# Altium footprint library STM32 Core board.PcbLib: 42 footprints (part 2 of 3)
Each footprint in its own frame and in the unit in brackets; x right, y up, seen from the top. Pads: shape width x height; smd on the part's side, far side on the other; paste and mask are expansions set on the pad; w line width, h text height; cw(c..) or ccw(c..) is an arc to the next point about the centre after c.
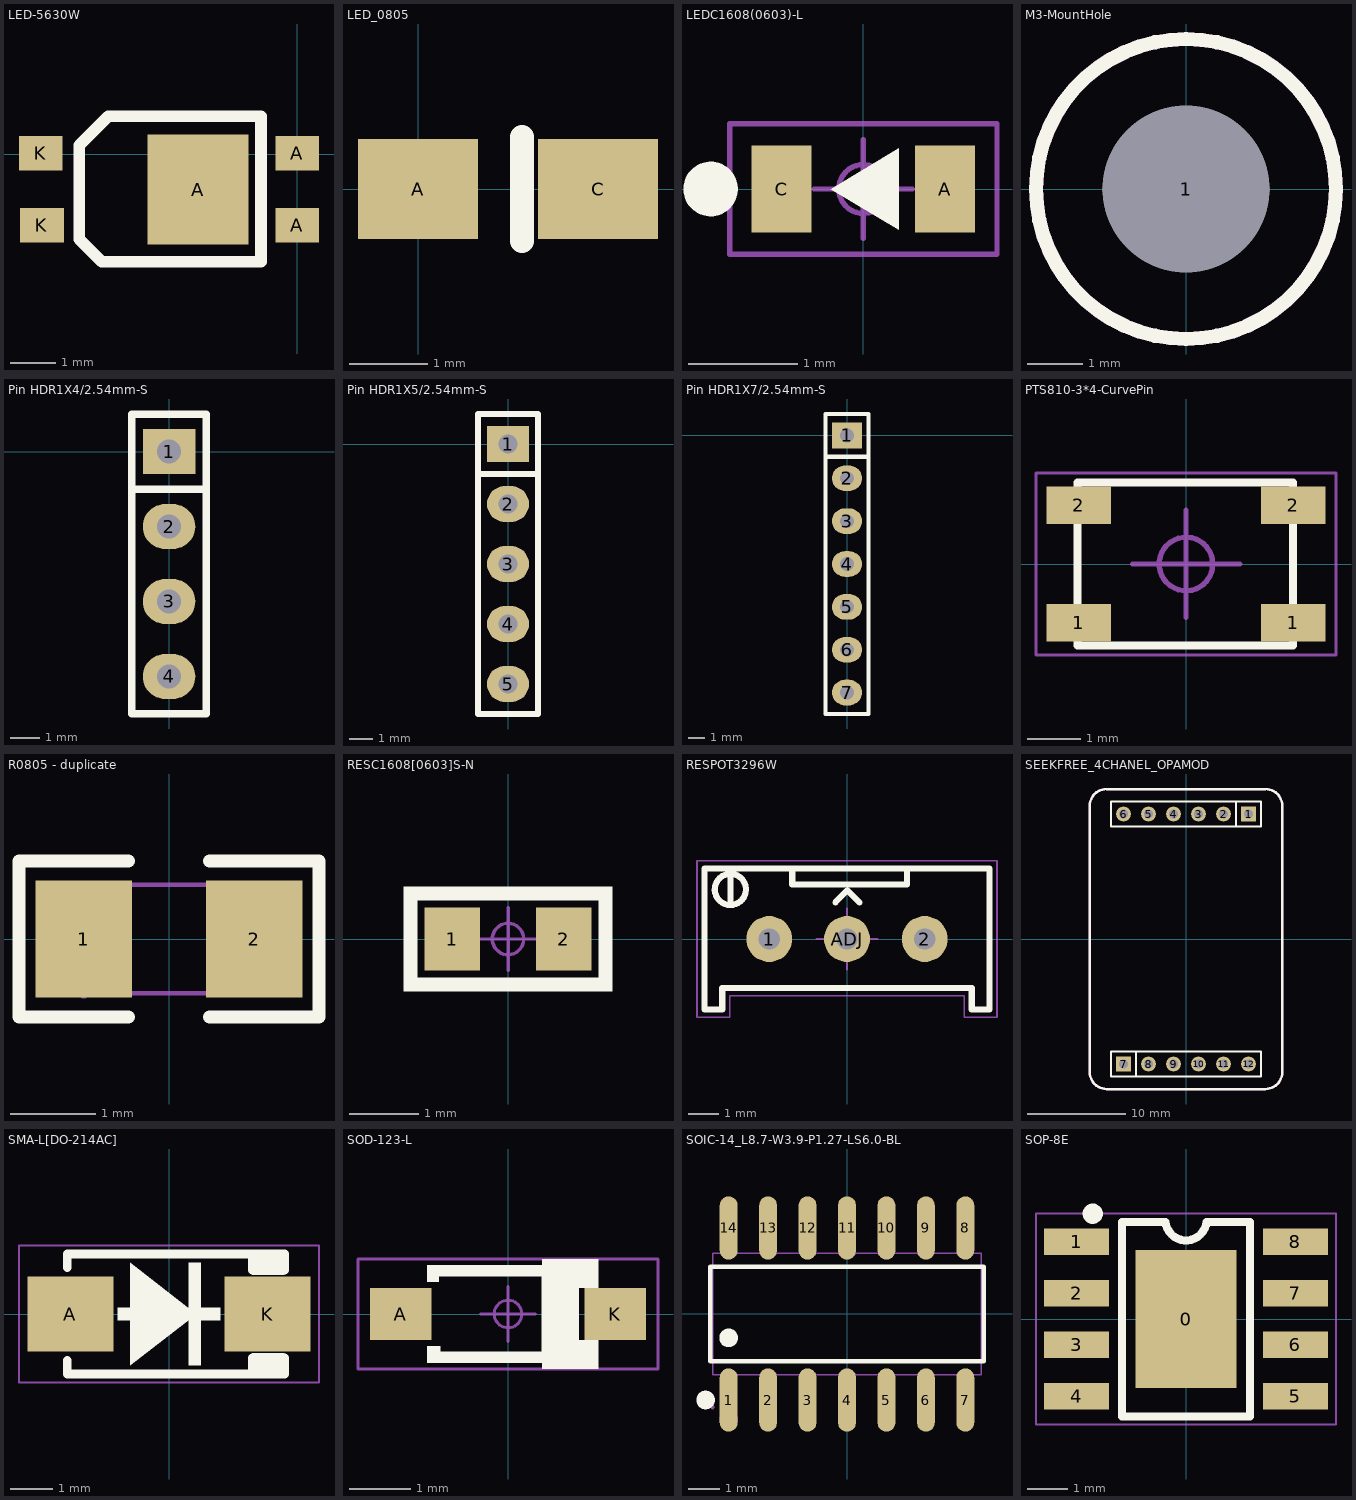
[diagram p1: the footprints below, top view; thin cyan lines are the x and y axes]

## LED-5630W [mm]
pads (5):
  rect 2.2x2.4 smd: A(-2.159,-0.768)
  rect 0.95x0.75 smd: A(0,-1.543) A(0,0.019) K(-5.588,0.019) K(-5.563,-1.543)
Top Overlay:
  lines w0.254: -4.75,-1.854 -4.261,-2.343 -0.787,-2.343 -0.787,0.832 -4.115,0.832 -4.75,0.197 -4.75,-1.854
3D body "1.STEP": height 0.95, standoff 0.05, extent -5.567,-2.286 0.233,0.714

## LED_0805 [mil]
height 4251.97
pads (2):
  rect 60x50 smd: A(0,0) C(90,0)
Top Overlay:
  lines w12: 52,-26 52,26
3D body "User Library-led_0805.STEP": height 43.31, standoff 0, extent 5.24,-22.61 84.77,26.6

## LEDC1608(0603)-L [mm] "LED,Chip;1.60mm L X 0.80mm W X 0.80mm H"
height 0.8
pads (2):
  rect 0.55x0.8 smd: A(0.75,0) C(-0.75,0)
Top Overlay:
  circle w0.25: c-1.4,0 r0.125
  region: -0.3,0 0.325,0.375 0.325,-0.375
Top Designator:
  text ".Designator" at 2.053,0.226 h1
Top Component Outline:
  lines w0.05: -1.225,-0.6 1.225,-0.6 1.225,0.6 -1.225,0.6 -1.225,-0.6
Top Component Center:
  circle w0.05: c0,0 r0.225
  lines w0.05: -0.45,0 0.45,0 ; 0,-0.45 0,0.45
3D body "0603 (1608) LED Base (Separate Lens).STEP": height 0.64, standoff 0, extent -0.8,-0.4 0.8,0.4
3D body: height 0.64, standoff 0, extent -0.559,-0.4 0.559,0.4

## M3-MountHole [mm] "M3-MountHole"
pads (1):
  round 3 hole 3 unplated mask+0: 1(0,0)
Top Overlay:
  circle w0.254: c0,0 r2.7
  lines w0.2: -0.4,-0.4 0.4,0.4 ; -0.4,0.4 0.4,-0.4
Bottom Overlay:
  circle w0.254: c0,0 r2.7
Keep-Out Layer:
  circle w0.254: c0,0 r2.7

## Pin HDR1X4/2.54mm-S [mil]
pads (4):
  rect 70x60 hole 32: 1(0,0)
  oval 70x60 hole 32: 2(0,-100) 3(0,-200) 4(0,-300)
Top Overlay:
  lines w10: -50,-50 50,-50 ; -50,-350 -50,50 50,50 50,-350 -50,-350
3D body "1001-4.STEP": height 336.22, standoff -118.11, extent -49.99,-350 50.01,50

## Pin HDR1X5/2.54mm-S [mil]
pads (5):
  rect 70x60 hole 32: 1(0,0)
  oval 70x60 hole 32: 2(0,-100) 3(0,-200) 4(0,-300) 5(0,-400)
Top Overlay:
  lines w10: -50,-50 50,-50 ; -50,-450 -50,50 50,50 50,-450 -50,-450
3D body "1001-5.STEP": height 336.22, standoff -118.11, extent -49.99,-450 50.01,50

## Pin HDR1X7/2.54mm-S [mil]
pads (7):
  rect 70x60 hole 32: 1(0,0)
  oval 70x60 hole 32: 2(0,-100) 3(0,-200) 4(0,-300) 5(0,-400) 6(0,-500) 7(0,-600)
Top Overlay:
  lines w10: -50,-50 50,-50 ; -50,-650 -50,50 50,50 50,-650 -50,-650
3D body "1001-7.STEP": height 336.22, standoff -118.11, extent -49.99,-650 50.01,50

## PTS810-3*4-CurvePin [mm] "3*4 白色 汽车遥控器贴片按键 包脚"
height 4.32
pads (4):
  rect 1.2x0.7 smd: 1(-2,-1.1) 1(2,-1.1) 2(-2,1.1) 2(2,1.1)
Top Overlay:
  lines w0.152: -2.025,-1.524 -2.025,1.524 2,1.524 2,-1.524 -2.025,-1.524
Top Designator:
  text ".Designator" at -2.253,-0.226 h1
Top Component Outline:
  lines w0.05: -2.8,-1.7 2.8,-1.7 2.8,1.7 -2.8,1.7 -2.8,-1.7
Top Component Center:
  circle w0.1: c0,0 r0.5
  lines w0.1: -1,0 1,0 ; 0,-1 0,1
3D body "User Library-PTS810.STEP": height 2.5, standoff 0, extent -2.301,-1.6 2.299,1.6

## R0805 - duplicate [mm]
pads (2):
  rect 1.133x1.377 smd paste-100 mask+0.051: 1(-1,0) 2(1,0)
Top Overlay:
  lines w0.152: -0.476,-0.917 -1.761,-0.917 -1.761,0.917 -0.476,0.917 ; 0.476,-0.917 1.761,-0.917 1.761,0.917 0.476,0.917
Top Paste:
  region: -1.7,-0.64 -1.7,0.64 -1.65,0.69 -0.5,0.69 -0.45,0.64 -0.445,0.23 -0.895,0.23 -0.895,-0.22 -0.455,-0.22 -0.45,-0.64 -0.5,-0.69 -1.65,-0.69
  region: 0.45,-0.64 0.45,-0.22 0.895,-0.22 0.895,0.23 0.455,0.23 0.45,0.64 0.5,0.69 1.65,0.69 1.7,0.64 1.7,-0.64 1.65,-0.69 0.5,-0.69
Bottom Component Outline:
  region: -1,-0.637 -1,0.637 -0.6,0.637 -0.6,-0.637
  region: 1,-0.637 1,0.637 0.6,0.637 0.6,-0.637
  region: -0.94,-0.638 -0.941,-0.614 -0.976,-0.58 -1.024,-0.58 -1.059,-0.613 -1.06,-0.637 -1.059,-0.661 -1.024,-0.695 -0.976,-0.695 -0.941,-0.662 -0.94,-0.638
  lines w0.051: -1,-0.637 -1,0.637 1,0.637 1,-0.637 -1,-0.637

## RESC1608[0603]S-N [mm] "0603贴片电阻 有丝印 2脚 1.60x0.80mm IPC中密度"
height 0.6
pads (2):
  rect 0.8x0.9 smd: 1(-0.8,0) 2(0.8,0)
Top Overlay:
  region: 1.5,-0.751 1.5,0.749 1.3,0.749 1.3,-0.751
  region: -1.501,0.75 -1.501,-0.75 -1.301,-0.75 -1.301,0.75
  rectangle: -1.5,0.55 1.5,0.75
  rectangle: -1.499,-0.75 1.501,-0.55
Top Designator:
  text ".Designator" at 2.253,0.226 h1
Top Component Outline:
  rectangle: -1.45,-0.7 -1.4,0.7
  region: 1.45,0.65 1.45,0.7 -1.45,0.7 -1.45,0.65
  region: 1.45,0.7 1.4,0.7 1.4,-0.7 1.45,-0.7
  region: -1.45,-0.65 -1.45,-0.7 1.45,-0.7 1.45,-0.65
Top Component Center:
  circle w0.05: c0,0 r0.225
  lines w0.05: -0.45,0 0.45,0 ; 0,-0.45 0,0.45
3D body "R0603.STEP": height 0.45, standoff 0, extent -0.8,-0.4 0.8,0.4

## RESPOT3296W [mm] "3296W 精密可调电阻 顶调"
height 0.6
pads (3):
  round 1.5 hole 0.7: 1(-2.54,0) 2(2.54,0) ADJ(0,0)
Top Overlay:
  lines w0.2: -3.8,1.125 -3.8,2.125 ; -3.302,1.651 ccw(c-3.81,1.618) -3.301,1.608 ; -1.79,2.286 -1.79,1.778 1.96,1.778 1.96,2.286 ; -0.381,1.194 0.013,1.587 0.406,1.194 ; -4.65,-2.3 -4.075,-2.3 -4.075,-1.602 4.075,-1.602 4.075,-2.3 4.65,-2.3 4.65,2.3 -4.65,2.3 -4.65,-2.3
Top Designator:
  text ".Designator" at 2.163,0.126 h1
Top Component Outline:
  lines w0.05: -4.9,-2.55 -3.825,-2.55 -3.825,-1.85 -3.16,-1.85 2.8,-1.85 3.825,-1.85 3.825,-2.55 4.9,-2.55 4.9,2.55 -4.9,2.55 -4.9,-2.55
Top Component Center:
  circle w0.05: c0,0 r0.5
  lines w0.05: -1,0 1,0 ; 0,-1 0,1
3D body "3296.STEP": height 3.1, standoff -11.9, extent -4.75,-2.4 4.75,2.4

## SEEKFREE_4CHANEL_OPAMOD [mm]
height 0.6
pads (12):
  rect 1.5x1.5 hole 0.9: 1(6.35,12.7) 7(-6.35,-12.7)
  round 1.5 hole 0.9: 2(3.81,12.7) 3(1.27,12.7) 4(-1.27,12.7) 5(-3.81,12.7) 6(-6.35,12.7) 8(-3.81,-12.7) 9(-1.27,-12.7) 10(1.27,-12.7) 11(3.81,-12.7) 12(6.35,-12.7)
Top Overlay:
  lines w0.2: -5.1,-13.95 -5.1,-11.45 ; 5.1,11.45 5.1,13.95 ; -7.62,-13.97 7.62,-13.97 7.62,-11.43 -7.62,-11.43 -7.62,-13.97 ; -7.62,11.43 7.62,11.43 7.62,13.97 -7.62,13.97 -7.62,11.43
Top Overlay keep-out:
  lines w0.254: -9.779,-13.524 ccw(c-8.063,-13.524) -8.063,-15.24 8.063,-15.24 ccw(c8.063,-13.524) 9.779,-13.524 9.779,13.524 ccw(c8.063,13.524) 8.063,15.24 -8.063,15.24 ccw(c-8.063,13.524) -9.779,13.524 -9.779,-13.524
Top Designator:
  text ".Designator" at -2.253,-0.226 h1
3D body "1001-6.STEP": height 8.54, standoff -3, extent -7.62,11.43 7.62,13.97
3D body "1001-6.STEP": height 8.54, standoff -3, extent -7.62,-13.97 7.62,-11.43
3D body "Female-Header-2.54-Single-6.stp": height 8.5, standoff -3.2, extent -7.747,-13.975 7.743,-11.475
3D body "Female-Header-2.54-Single-6.stp": height 8.5, standoff -3.2, extent -7.743,11.475 7.747,13.975

## SMA-L[DO-214AC] [mm] "SMA 二极管 贴片 IPC高密度"
height 2.31
pads (2):
  rect 2x1.75 smd: A(-2.3,0) K(2.3,0)
Top Overlay:
  rectangle: 1.941,-1.4 2.7,-0.914
  rectangle: 1.941,0.914 2.7,1.395
  rectangle: 0.451,-1.2 0.751,1.2
  rectangle: -1.2,-0.149 1.2,0.151
  region: -0.902,1.2 -0.902,-1.2 0.635,0
  lines w0.2: -2.375,-1.075 -2.375,-1.4 2.7,-1.4 2.7,-1.016 ; -2.375,1.075 -2.375,1.4 2.7,1.4 2.7,1.016 ; 1.941,-1.395 1.941,-1.016 ; 1.941,1.016 1.941,1.395
Top Designator:
  text ".Designator" at 2.253,0.226 h1
Top Component Outline:
  lines w0.05: -3.5,-1.6 3.5,-1.6 3.5,1.6 -3.5,1.6 -3.5,-1.6
Top Component Center:
  circle w0.05: c0,0 r0.225
  lines w0.05: -0.45,0 0.45,0 ; 0,-0.45 0,0.45
3D body "SMA(DO-214AC).STEP": height 2.3, standoff 0, extent -2.905,-1.46 2.905,1.46

## SOD-123-L [mm] "SOD Diode;2.70mm W X 1.60mm L X 1.35mm H body"
height 1.35
pads (2):
  rect 1x0.85 smd: A(-1.75,0) K(1.75,0)
Top Overlay:
  rectangle: 0.55,-0.796 1.16,0.804
  rectangle: 0.554,-0.9 1.479,-0.697
  rectangle: -1.143,0.612 0.584,0.8
  rectangle: 0.554,0.697 1.479,0.9
  rectangle: -1.143,-0.8 0.584,-0.612
  rectangle: 1.15,0.425 1.475,0.8
  rectangle: 1.15,-0.8 1.475,-0.425
  region: -1.1,-0.525 -1.325,-0.525 -1.325,-0.8 -1.1,-0.8
  region: -1.125,0.8 -1.325,0.8 -1.325,0.525 -1.125,0.525
Top Designator:
  text ".Designator" at 2.253,0.226 h1
Top Component Outline:
  lines w0.05: -2.45,-0.9 -2.45,0.9 2.45,0.9 2.45,-0.9 -2.45,-0.9
Top Component Center:
  circle w0.05: c0,0 r0.225
  lines w0.05: -0.45,0 0.45,0 ; 0,-0.45 0,0.45
3D body "SOD-123.STEP": height 1.2, standoff 0, extent -1.85,-0.8 1.85,0.8

## SOIC-14_L8.7-W3.9-P1.27-LS6.0-BL [mm]
pads (14):
  oval 0.574x2.038 smd: 1(-3.81,-2.769) 2(-2.54,-2.769) 3(-1.27,-2.769) 4(0,-2.769) 5(1.27,-2.769) 6(2.54,-2.769) 7(3.81,-2.769) 8(3.81,2.769) 9(2.54,2.769) 10(1.27,2.769) 11(0,2.769) 12(-1.27,2.769) 13(-2.54,2.769) 14(-3.81,2.769)
Top Overlay:
  circle w0.3: c-3.81,-0.769 r0.15
  circle w0.3: c-4.549,-2.769 r0.15
  lines w0.152: -4.401,-1.521 -4.401,1.521 4.401,1.521 4.401,-1.521 -4.401,-1.521
Mechanical 6:
  circle w0.3: c-3.81,-3.4 r0.15
Mechanical 15:
  drawing of 33 lines, arcs and shapes, not listed

## SOP-8E [mm] "SOIC,1.27mm pitch;8 pin,3.90mm W X 4.88mm L X 1.73mm H body"
height 0.6
pads (9):
  rect 2.5x3.4 smd: 0(0,0)
  rect 1.6x0.65 smd: 1(-2.7,1.905) 2(-2.7,0.635) 3(-2.7,-0.635) 4(-2.7,-1.905) 5(2.7,-1.905) 6(2.7,-0.635) 7(2.7,0.635) 8(2.7,1.905)
Top Overlay:
  circle w0.25: c-2.3,2.6 r0.125
  lines w0.2: -0.508,2.4 -1.575,2.4 -1.575,-2.4 1.575,-2.4 1.575,2.4 0.508,2.4 ; -0.505,2.399 ccw(c0,2.45) 0.505,2.399
Top Designator:
  text ".Designator" at -2.253,-0.113 h1
Top Component Outline:
  lines w0.05: -3.7,-2.6 3.7,-2.6 3.7,2.6 -3.7,2.6 -3.7,-2.6
Top Component Center:
  circle w0.05: c0,0 r0.35
  lines w0.05: -0.5,0 0.5,0 ; 0,-0.5 0,0.5
3D body "SOIC8.STEP": height 1.75, standoff 0, extent -3.105,-2.45 3.105,2.45